# Altium integrated library WakameLibGOOD.IntLib: 52 symbols (part 1 of 3)
Pins are listed as number, name and electrical type; pins without a type are passive.

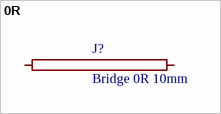
[diagram p0: symbol 0R]

## 0R
designator J?, comment Bridge 0R 10mm
footprint 0R/10
pins: 1, 2


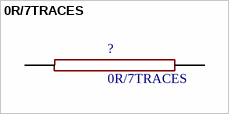
[diagram p1: symbol 0R/7TRACES]

## 0R/7TRACES
designator ?
footprint 0R/7TRACES
pins: P$1, P$2


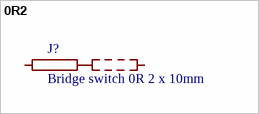
[diagram p2: symbol 0R2]

## 0R2
designator J?, comment Bridge switch 0R 2 x 10mm
footprint 0R2/10
pins: 1, 2, 3


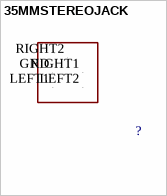
[diagram p3: symbol 35MMSTEREOJACK]

## 35MMSTEREOJACK
designator ?
footprint PG203J
pins: GND P$1, LEFT1 P$2, LEFT2 P$3, RIGHT1 P$4, RIGHT2 P$5


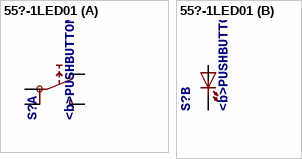
[diagram p4: symbol 55?-1LED01]

## 55?-1LED01
designator S?, comment <b>PUSHBUTTON SERIES 5500 SWITCHES</b> 1 LED<p> / Source: www.e-switch.com .. 5500.pdf
footprint 5501-1LED
part A pins: 1A, 1B, NC, NO
part B pins: + A, - K


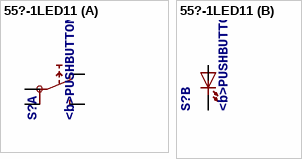
[diagram p5: symbol 55?-1LED11]

## 55?-1LED11
designator S?, comment <b>PUSHBUTTON SERIES 5500 SWITCHES</b> 1 LED<p> / Source: www.e-switch.com .. 5500.pdf
footprint 5511-1LED
part A pins: 1A, 1B, NC, NO
part B pins: +G A, -G K


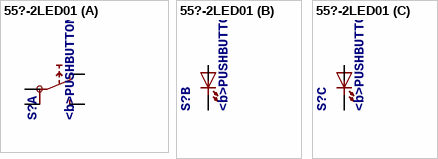
[diagram p6: symbol 55?-2LED01]

## 55?-2LED01
designator S?, comment <b>PUSHBUTTON SERIES 5500 SWITCHES</b> 2 LED<p> / Source: www.e-switch.com .. 5500.pdf
footprint 5501-2LED
part A pins: 1A, 1B, NC, NO
part B pins: +R A, -R K
part C pins: +G A, -G K


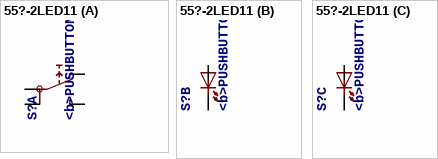
[diagram p7: symbol 55?-2LED11]

## 55?-2LED11
designator S?, comment <b>PUSHBUTTON SERIES 5500 SWITCHES</b> 2 LED<p> / Source: www.e-switch.com .. 5500.pdf
footprint 5511-2LED
part A pins: 1A, 1B, NC, NO
part B pins: +Y A, -Y K
part C pins: +R A, -R K


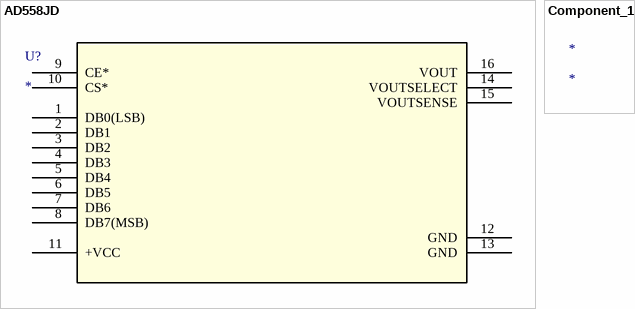
[diagram p8: symbols AD558JD to Component_1]

## AD558JD
designator U?
Imported; Manufacturer_Part_Number: AD558JD; Vendor: Vendor; Value: Value; Type: Type; RefDes: Refdes
footprint DIP-16 (DIP; 16 Leads; Row Spacing 7.62 mm; Pitch 2.54 mm)
pins: 1 DB0(LSB), 2 DB1, 3 DB2, 4 DB3, 5 DB4, 6 DB5, 7 DB6, 8 DB7(MSB), 9 CE*, 10 CS*, 11 +VCC (power), 12 GND, 13 GND, 14 VOUTSELECT, 15 VOUTSENSE, 16 VOUT

## Component_1
designator *


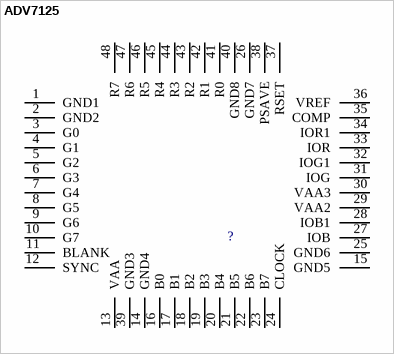
[diagram p9: symbol ADV7125]

## ADV7125
designator ?
footprint LFCSP48
pins: 1 GND1, 2 GND2, 3 G0, 4 G1, 5 G2, 6 G3, 7 G4, 8 G5, 9 G6, 10 G7, 11 BLANK, 12 SYNC, 13 VAA, 14 GND4, 15 GND5, 16 B0, 17 B1, 18 B2, 19 B3, 20 B4, 21 B5, 22 B6, 23 B7, 24 CLOCK, 25 GND6, 26 GND7, 27 IOB, 28 IOB1, 29 VAA2, 30 VAA3, 31 IOG, 32 IOG1, 33 IOR, 34 IOR1, 35 COMP, 36 VREF, 37 RSET, 38 PSAVE, 39 GND3, 40 GND8, 41 R0, 42 R1, 43 R2, 44 R3, 45 R4, 46 R5, 47 R6, 48 R7


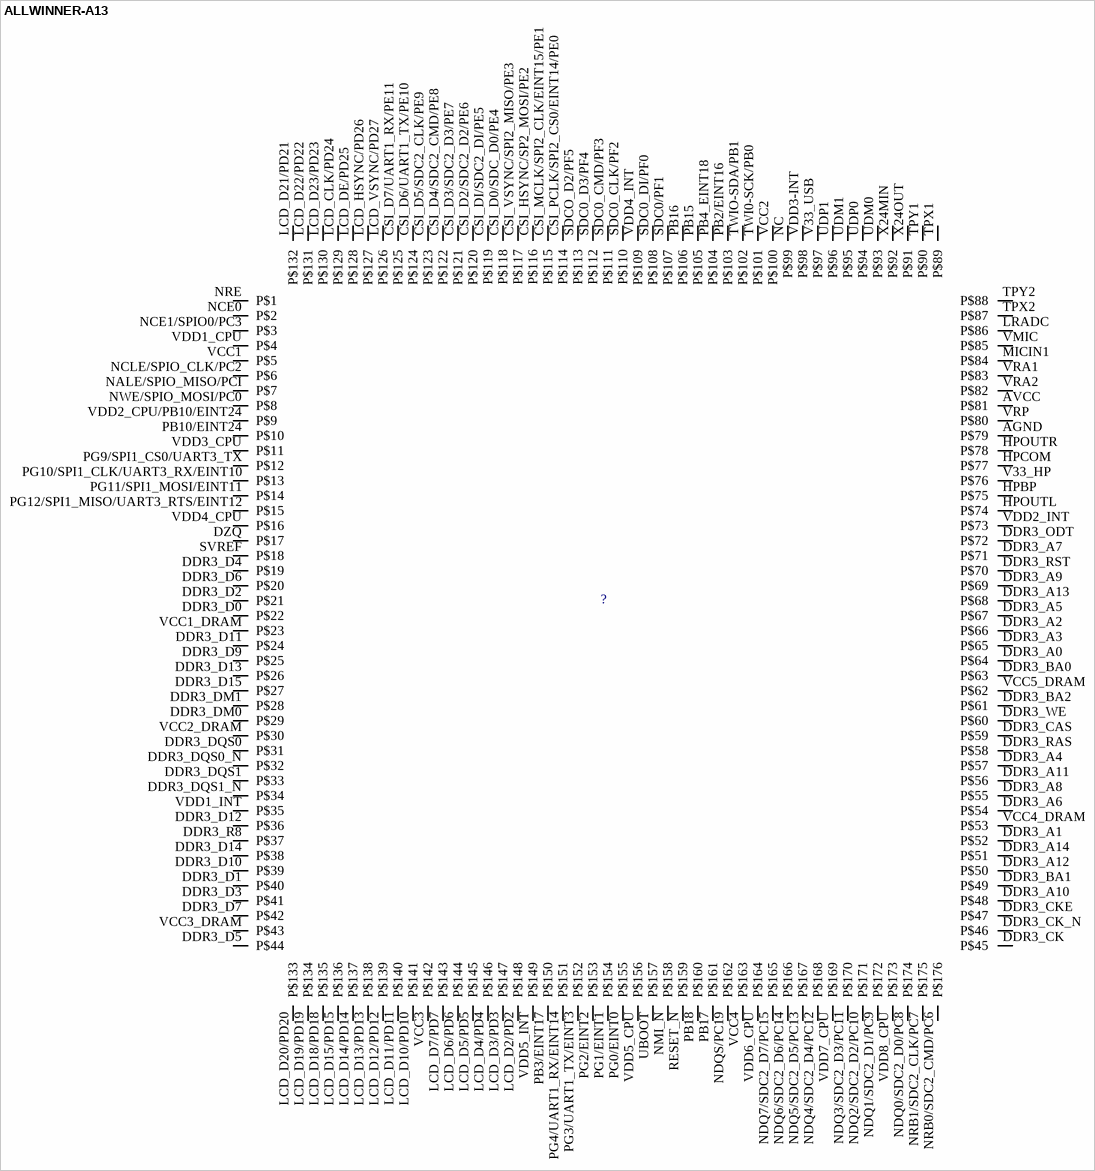
[diagram p10: symbol ALLWINNER-A13]

## ALLWINNER-A13
designator ?
footprint PG-LQFP-176-2
pins: AGND P$79, AVCC P$81, CSI_D0/SDC_D0/PE4 P$118, CSI_D2/SDC2_D2/PE6 P$120, CSI_D3/SDC2_D3/PE7 P$121, CSI_D4/SDC2_CMD/PE8 P$122, CSI_D5/SDC2_CLK/PE9 P$123, CSI_D6/UART1_TX/PE10 P$124, CSI_D7/UART1_RX/PE11 P$125, CSI_DI/SDC2_DI/PE5 P$119, CSI_HSYNC/SP2_MOSI/PE2 P$116, CSI_MCLK/SPI2_CLK/EINT15/PE1 P$115, CSI_PCLK/SPI2_CS0/EINT14/PE0 P$114, CSI_VSYNC/SPI2_MISO/PE3 P$117, DDR3_A0 P$64, DDR3_A1 P$52, DDR3_A2 P$66, DDR3_A3 P$65, DDR3_A4 P$57, DDR3_A5 P$67, DDR3_A6 P$54, DDR3_A7 P$71, DDR3_A8 P$55, DDR3_A9 P$69, DDR3_A10 P$48, DDR3_A11 P$56, DDR3_A12 P$50, DDR3_A13 P$68, DDR3_A14 P$51, DDR3_BA0 P$63, DDR3_BA1 P$49, DDR3_BA2 P$61, DDR3_CAS P$59, DDR3_CK P$45, DDR3_CK_N P$46, DDR3_CKE P$47, DDR3_D0 P$22, DDR3_D1 P$40, DDR3_D2 P$21, DDR3_D3 P$41, DDR3_D4 P$19, DDR3_D5 P$44, DDR3_D6 P$20, DDR3_D7 P$42, DDR3_D9 P$25, DDR3_D10 P$39, DDR3_D11 P$24, DDR3_D12 P$36, DDR3_D13 P$26, DDR3_D14 P$38, DDR3_D15 P$27, DDR3_DM0 P$29, DDR3_DM1 P$28, DDR3_DQS0 P$31, DDR3_DQS0_N P$32, DDR3_DQS1 P$33, DDR3_DQS1_N P$34, DDR3_ODT P$72, DDR3_R8 P$37, DDR3_RAS P$58, DDR3_RST P$70, DDR3_WE P$60, DZQ P$17, HPBP P$75, HPCOM P$77, HPOUTL P$74, HPOUTR P$78, LCD_CLK/PD24 P$129, LCD_D2/PD2 P$148, LCD_D3/PD3 P$147, LCD_D4/PD4 P$146, LCD_D5/PD5 P$145, LCD_D6/PD6 P$144, LCD_D7/PD7 P$143, LCD_D10/PD10 P$141, LCD_D11/PD11 P$140, LCD_D12/PD12 P$139, LCD_D13/PD13 P$138, LCD_D14/PD14 P$137, LCD_D15/PD15 P$136, LCD_D18/PD18 P$135, LCD_D19/PD19 P$134, LCD_D20/PD20 P$133, LCD_D21/PD21 P$132, LCD_D22/PD22 P$131, LCD_D23/PD23 P$130, LCD_DE/PD25 P$128, LCD_HSYNC/PD26 P$127, LCD_VSYNC/PD27 P$126, LRADC P$86, MICIN1 P$84, NALE/SPIO_MISO/PCI P$7, NC P$99, NCE0 P$2, NCE1/SPIO0/PC3 P$3, NCLE/SPIO_CLK/PC2 P$6, NDQ0/SDC2_D0/PC8 P$174, NDQ1/SDC2_D1/PC9 P$172, NDQ2/SDC2_D2/PC10 P$171, NDQ3/SDC2_D3/PC11 P$170, NDQ4/SDC2_D4/PC12 P$168, NDQ5/SDC2_D5/PC13 P$167, NDQ6/SDC2_D6/PC14 P$166, NDQ7/SDC2_D7/PC15 P$165, NDQS/PC19 P$162, NMI_N P$158, NRB0/SDC2_CMD/PC6 P$176, NRB1/SDC2_CLK/PC7 P$175, NRE P$1, NWE/SPIO_MOSI/PC0 P$8, PB2/EINT16 P$103, PB3/EINT17 P$150, PB4_EINT18 P$104, PB10/EINT24 P$10, PB15 P$105, PB16 P$106, PB17 P$161, PB18 P$160, PG0/EINT0 P$155, PG1/EINT1 P$154, PG2/EINT2 P$153, PG3/UART1_TX/EINT3 P$152, PG4/UART1_RX/EINT14 P$151, PG9/SPI1_CS0/UART3_TX P$12, PG10/SPI1_CLK/UART3_RX/EINT10 P$13, PG11/SPI1_MOSI/EINT11 P$14, PG12/SPI1_MISO/UART3_RTS/EINT12 P$15, RESET_N P$159, SDC0/PF1 P$107, SDC0_CLK/PF2 P$110, SDC0_CMD/PF3 P$111, SDC0_D3/PF4 P$112, SDC0_DI/PF0 P$108, SDCO_D2/PF5 P$113, SVREF P$18, TPX1 P$89, TPX2 P$87, TPY1 P$90, TPY2 P$88, TWI0-SCK/PB0 P$101, TWIO-SDA/PB1 P$102, UBOOT P$157, UDM0 P$93, UDM1 P$95, UDP0 P$94, UDP1 P$96, V33_HP P$76, V33_USB P$97, VCC1 P$5, VCC1_DRAM P$23, VCC2 P$100, VCC2_DRAM P$30, VCC3 P$142, VCC3_DRAM P$43, VCC4 P$163, VCC4_DRAM P$53, VCC5_DRAM P$62, VDD1_CPU P$4, VDD1_INT P$35, VDD2_CPU/PB10/EINT24 P$9, VDD2_INT P$73, VDD3-INT P$98, VDD3_CPU P$11, VDD4_CPU P$16, VDD4_INT P$109, VDD5_CPU P$156, VDD5_INT P$149, VDD6_CPU P$164, VDD7_CPU P$169, VDD8_CPU P$173, VMIC P$85, VRA1 P$83, VRA2 P$82, VRP P$80, X24MIN P$92, X24OUT P$91


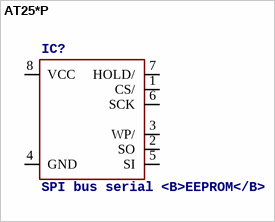
[diagram p11: symbol AT25*P]

## AT25*P
designator IC?, comment SPI bus serial <B>EEPROM</B>
MPN: CAT25040LI-G; OC_FARNELL: 1718045; OC_NEWARK: 06R0588
footprint DIL08
pins: 1 CS/, 2 SO, 3 WP/, 4 GND (power), 5 SI, 6 SCK, 7 HOLD/, 8 VCC (power)


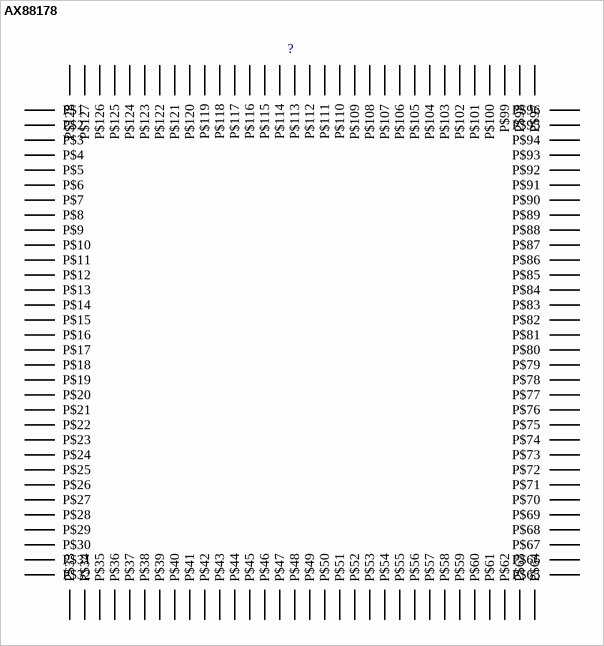
[diagram p12: symbol AX88178]

## AX88178
designator ?
footprint QFP128_SOT320-2
pins: AGND P$29, AGND1 P$33, AGND4 P$38, AGND5 P$50, AGND6 P$54, AGND7 P$55, AGND9 P$60, AGND10 P$63, AGND15 P$67, AGND16 P$69, AVDD3 P$28, AVDD3.1 P$37, AVDD3.2 P$39, AVDDK P$49, AVDDK2 P$53, AVDDK4 P$57, AVDDK9 P$64, AVDDK14 P$66, AVDDK16 P$68, CLK60EXT P$45, CLKSEL P$46, COL P$116, CRS P$115, DB P$65, DM P$31, DMRS P$35, DP P$32, DPRS P$36, EECK P$4, EECS P$5, EEDI P$6, EEDO P$9, EXTWAKEUP_N P$11, FORCEFS_N P$15, GND P$7, GND1 P$17, GND2 P$18, GND3 P$25, GND4 P$40, GND12 P$74, GND13 P$81, GND15 P$87, GND16 P$98, GND17 P$100, GND21 P$75, GND23 P$124, GND24 P$127, GNDAH P$23, GPIO0 P$3, GPIO1 P$2, GPIO2 P$1, GTX_CLK P$91, HS_TEST_MODE P$42, INT_REGULATOR_EN P$20, LED P$125, MDC P$121, MDINT P$117, MDIO P$120, NC P$47, NC1 P$14, NC2 P$48, NC3 P$51, NC4 P$52, NC7 P$58, NC8 P$59, NC9 P$61, NC10 P$56, NC11 P$62, NC17 P$71, NC18 P$72, NC19 P$92, NC20 P$93, NC21 P$94, NC22 P$73, NC23 P$96, NC24 P$70, NC25 P$95, NC26 P$119, PHYRST_N P$122, RESET_N P$12, RGMII_EN P$103, RPU P$34, RREF P$30, RX_CLK P$104, RX_DV P$105, RX_ER P$106, RXD0 P$107, RXD1 P$108, RXD2 P$109, RXD3 P$110, RXD4 P$111, RXD5 P$112, RXD6 P$113, RXD7 P$114, SCAN_ENABLE P$44, SCAN_TEST P$43, TESTSPEEDUP P$13, TX_CLK P$102, TX_EN P$89, TX_ER P$88, TXC P$90, TXD0 P$85, TXD1 P$84, TXD2 P$83, TXD3 P$82, TXD4 P$79, TXD5 P$78, TXD6 P$77, TXD7 P$76, USB_SPEED_LED P$126, V25 P$21, VBUS P$10, VDD2.3 P$123, VDD2.7 P$80, VDD2.8 P$86, VDD3 P$8, VDD3.1 P$19, VDD3.3 P$41, VDD3.4 P$97, VDD3.5 P$128, VDDAH P$22, VDDK P$16, VDDK1 P$24, VDDK11 P$99, VDDK14 P$118, XIN12M P$101, XIN125M P$26, XOUT12M P$27


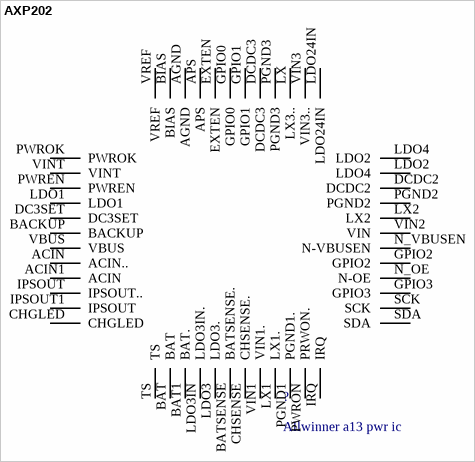
[diagram p13: symbol AXP202]

## AXP202
designator ?, comment Allwinner a13 pwr ic
footprint QFN48
pins: ACIN ACIN.., ACIN1 ACIN, AGND, APS, BACKUP, BAT, BAT1 BAT., BATSENSE BATSENSE., BIAS, CHGLED, CHSENSE CHSENSE., DC3SET, DCDC2, DCDC3, EXTEN, GPIO0, GPIO1, GPIO2, GPIO3, IPSOUT IPSOUT.., IPSOUT1 IPSOUT, IRQ, LDO1, LDO2 LDO4, LDO3 LDO3., LDO3IN LDO3IN., LDO4 LDO2, LDO24IN, LX LX3.., LX1 LX1., LX2, N_OE N-OE, N_VBUSEN N-VBUSEN, PGND1 PGND1., PGND2, PGND3, PWREN, PWROK, PWRON PRWON., SCK, SDA, TS, VBUS, VIN1 VIN1., VIN2 VIN, VIN3 VIN3.., VINT, VREF


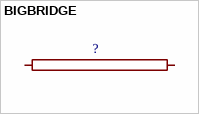
[diagram p14: symbol BIGBRIDGE]

## BIGBRIDGE
designator ?
pins: 1, 2


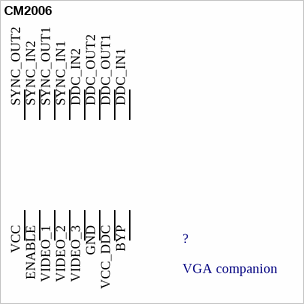
[diagram p15: symbol CM2006]

## CM2006
designator ?, comment VGA companion
footprint QSOP16
pins: BYP P$8, DDC_IN1 P$9, DDC_IN2 P$12, DDC_OUT1 P$10, DDC_OUT2 P$11, ENABLE P$2, GND P$6, SYNC_IN1 P$13, SYNC_IN2 P$15, SYNC_OUT1 P$14, SYNC_OUT2 P$16, VCC P$1, VCC_DDC P$7, VIDEO_1 P$3, VIDEO_2 P$4, VIDEO_3 P$5


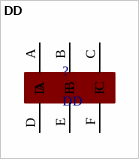
[diagram p16: symbol DD]

## DD
designator ?
footprint DD
pins: A, B, C, D, E, F


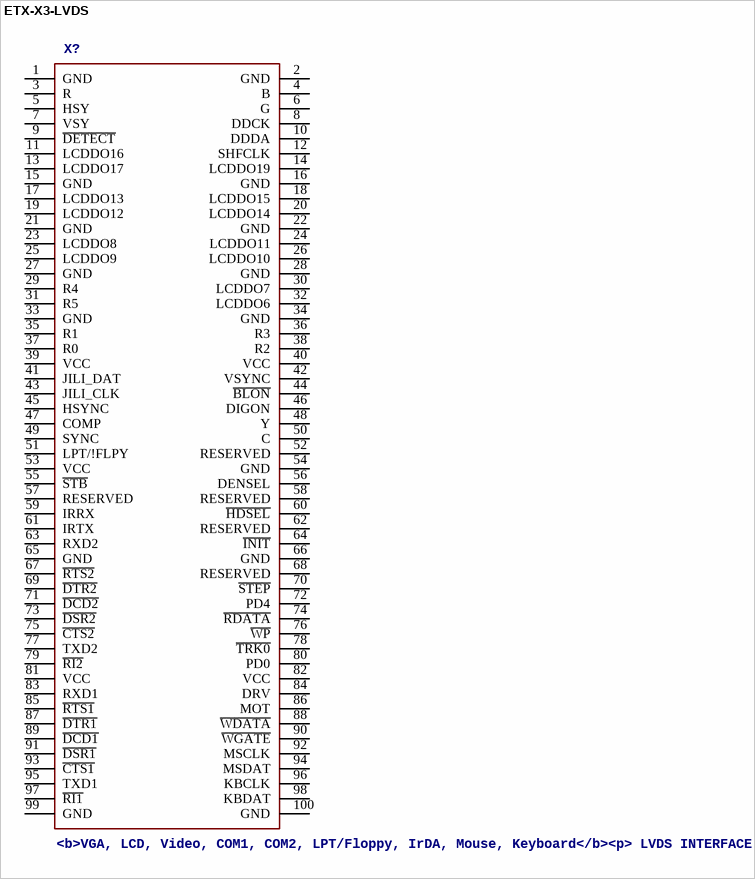
[diagram p17: symbol ETX-X3-LVDS]

## ETX-X3-LVDS
designator X?, comment <b>VGA, LCD, Video, COM1, COM2, LPT/Floppy, IrDA, Mouse, Keyboard</b><p> / LVDS INTERFACE PINOUT, PARALLEL PORT MODE PINOUT<br> / ETX Board Connector 100 Pos.<br> / Source: www.kontron.com/techlib/whitepapers/etx_spec.pdf
footprint FX8-100S-SV
pins: 1 GND (power), 2 GND (power), 3 R, 4 B, 5 HSY, 6 G, 7 VSY, 8 DDCK, 9 ~{DETECT}, 10 DDDA, 11 LCDDO16, 12 SHFCLK, 13 LCDDO17, 14 LCDDO19, 15 GND (power), 16 GND (power), 17 LCDDO13, 18 LCDDO15, 19 LCDDO12, 20 LCDDO14, 21 GND (power), 22 GND (power), 23 LCDDO8, 24 LCDDO11, 25 LCDDO9, 26 LCDDO10, 27 GND (power), 28 GND (power), 29 R4, 30 LCDDO7, 31 R5, 32 LCDDO6, 33 GND (power), 34 GND (power), 35 R1, 36 R3, 37 R0, 38 R2, 39 VCC (power), 40 VCC (power), 41 JILI_DAT, 42 VSYNC, 43 JILI_CLK, 44 ~{BLON}, 45 HSYNC, 46 DIGON, 47 COMP, 48 Y, 49 SYNC, 50 C, 51 LPT/!FLPY, 52 RESERVED, 53 VCC (power), 54 GND (power), 55 ~{STB}, 56 DENSEL, 57 RESERVED, 58 RESERVED, 59 IRRX, 60 ~{HDSEL}, 61 IRTX, 62 RESERVED, 63 RXD2, 64 ~{INIT}, 65 GND (power), 66 GND (power), 67 ~{RTS2}, 68 RESERVED, 69 ~{DTR2}, 70 ~{STEP}, 71 ~{DCD2}, 72 PD4, 73 ~{DSR2}, 74 ~{RDATA}, 75 ~{CTS2}, 76 ~{WP}, 77 TXD2, 78 ~{TRK0}, 79 ~{RI2}, 80 PD0, 81 VCC (power), 82 VCC (power), 83 RXD1, 84 DRV, 85 ~{RTS1}, 86 MOT, 87 ~{DTR1}, 88 ~{WDATA}, 89 ~{DCD1}, 90 ~{WGATE}, 91 ~{DSR1}, 92 MSCLK, 93 ~{CTS1}, 94 MSDAT, 95 TXD1, 96 KBCLK, 97 ~{RI1}, 98 KBDAT, 99 GND (power), 100 GND (power)


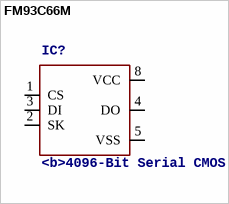
[diagram p18: symbol FM93C66M]

## FM93C66M
designator IC?, comment <b>4096-Bit Serial CMOS EEPROM</b> (MICROWIRE TM Synchronous Bus)<p> / Source: www.fairchildsemi.com
footprint M8
pins: 1 CS, 2 SK, 3 DI, 4 DO (hiz), 5 VSS (power), 8 VCC (power)


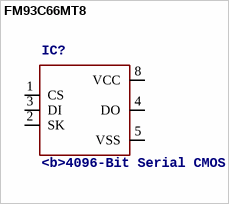
[diagram p19: symbol FM93C66MT8]

## FM93C66MT8
designator IC?, comment <b>4096-Bit Serial CMOS EEPROM</b> (MICROWIRE TM Synchronous Bus)<p> / Source: www.fairchildsemi.com
footprint TSSOP8
pins: 1 CS, 2 SK, 3 DI, 4 DO (hiz), 5 VSS (power), 8 VCC (power)


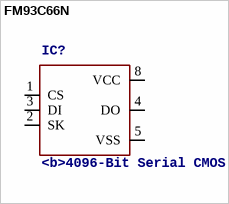
[diagram p20: symbol FM93C66N]

## FM93C66N
designator IC?, comment <b>4096-Bit Serial CMOS EEPROM</b> (MICROWIRE TM Synchronous Bus)<p> / Source: www.fairchildsemi.com
footprint DIL08
pins: 1 CS, 2 SK, 3 DI, 4 DO (hiz), 5 VSS (power), 8 VCC (power)


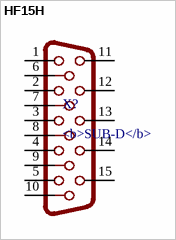
[diagram p21: symbol HF15H]

## HF15H
designator X?, comment <b>SUB-D</b>
OC_FARNELL: unknown; OC_NEWARK: unknown
footprint HDF15H
pins: 1, 2, 3, 4, 5, 6, 7, 8, 9, 10, 11, 12, 13, 14, 15


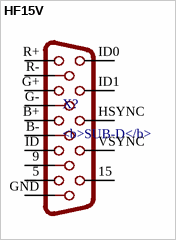
[diagram p22: symbol HF15V]

## HF15V
designator X?, comment <b>SUB-D</b>
OC_FARNELL: unknown; OC_NEWARK: unknown
footprint HDF15V
pins: 5, 9, 15, B+ 3, B- 8, G+ 2, G- 7, GND 10, HSYNC 13, ID 4, ID0 11, ID1 12, R+ 1, R- 6, VSYNC 14
